# EAGLE library part MCP1726MF-ADJ (library Microchip)
1A, Low Voltage, Low Quiescent Current LDO Regulator
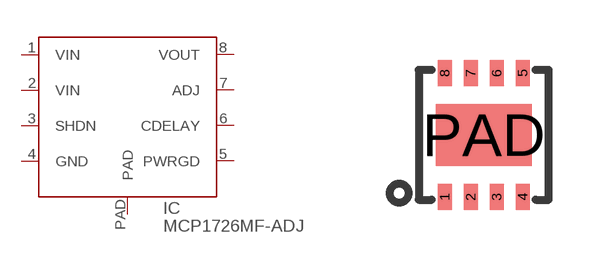
[diagram p37: symbol with the pads of DFN8-MF; footprint DFN8-MF]

Designator prefix IC

## MCP1726MF-ADJ  [DFN8-MF]
1  VIN
2  VIN
3  SHDN
4  GND
5  PWRGD
6  CDELAY
7  ADJ
8  VOUT
PAD  PAD

## Footprint DFN8-MF (pad centres in mm)
8-Lead Plastic Dual Flat, No Lead Package (MF), 3x3x0.9mm Body (DFN)
smd 0.35 x 0.65: 1 -0.975,-1.55; 2 -0.325,-1.55; 3 0.325,-1.55; 4 0.975,-1.55; 5 0.975,1.55; 6 0.325,1.55; 7 -0.325,1.55; 8 -0.975,1.55
smd 2.4 x 1.55: PAD 0,0